# Altium schematic symbol library Schlib.SchLib: 32 symbols
Pins are listed as number, name and electrical type; pins without a type are passive.

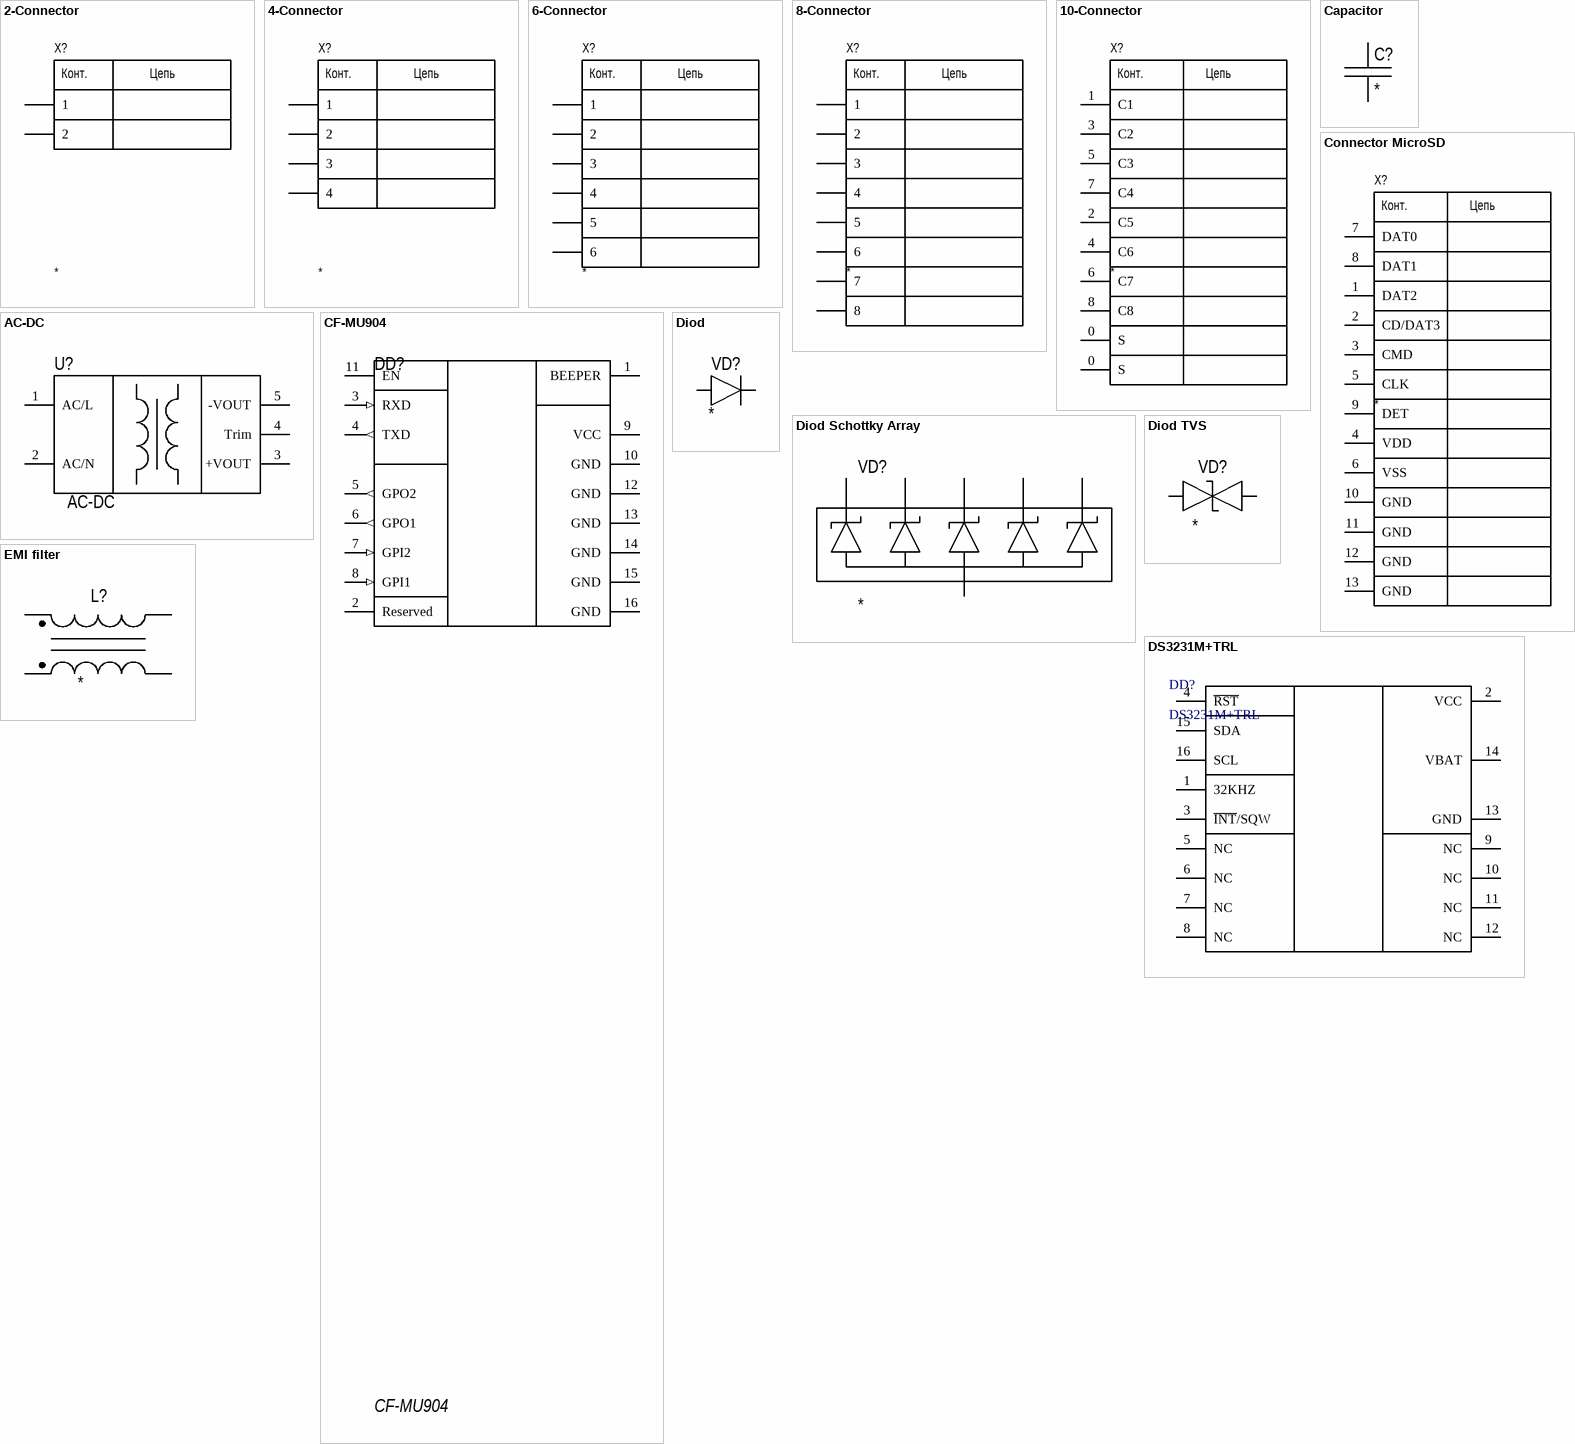
[diagram p0: symbols 2-Connector to EMI filter]

## 2-Connector
designator X?
Model: *; Manufacturer: *; HelpURL: *; ComponentKind: *
footprint CON: 300-02P-5.08 (2 pin 5.08mm screw connector)
pins: 1, 2
text: Конт.; Цепь

## 4-Connector
designator X?
Model: *; Manufacturer: *; HelpURL: *; ComponentKind: *
footprint CON: PLS-4 (PLS-40 4 pin header)
pins: 1, 2, 3 (power), 4 (power)
text: Конт.; Цепь

## 6-Connector
designator X?
Model: *; Manufacturer: *; HelpURL: *; ComponentKind: *
footprint CON: PLS-6
pins: 1, 2, 3 (power), 4 (power), 5 (power), 6 (power)
text: Конт.; Цепь

## 8-Connector
designator X?
Model: *; Manufacturer: *; HelpURL: *; ComponentKind: *
footprint CON: PLD-8 (PLD-40 8 pin header)
pins: 1, 2, 3, 4, 5, 6, 7, 8
text: Конт.; Цепь

## 10-Connector
designator X?
MicroSIM; Model: *; Manufacturer: *; HelpURL: *; ComponentKind: *
footprint CON: MicroSIM 8P SMD (8 Position Card Connector Micro SIM Surface Mount, Right Angle Gold)
pins: 0 S, 0 S, 1 C1, 2 C5, 3 C2, 4 C6, 5 C3, 6 C7, 7 C4, 8 C8
text: Конт.; Цепь

## AC-DC
designator U?
AC/DC CONVERTER; Manufacturer: MEAN WELL USA Inc.; Model: IRM-01-12; ComponentKind: 1W; HelpURL: https://www.digikey.com/en/products/detail/mean-well-usa-inc/IRM-01-12/7704612
footprint MOD: CBM70S (AC/DC CONVERTER)
pins: 1 AC/L (power), 2 AC/N (power), 3 +VOUT (power), 4 Trim (power), 5 -VOUT (power)

## Capacitor
designator C?
Manufacturer: *; Model: *; HelpURL: *; ComponentKind: *; Value: *
footprint CH0201C
footprint CH0402C
footprint CH0603C (Chip Capacitor, 2-Leads, Body 1,53x0,85mm, IPC Medium Density)
footprint CH0805C (Chip Capacitor, 2-Leads, Body 2,00x1,20mm, IPC Medium Density)
footprint CH1206C (Non polar chip capacitor, size 1206)
footprint CH1210C (Non polar chip capacitor, size 1210)
footprint CH1812C
pins: 1, 2

## CF-MU904
designator DD?
UHF RFID reader module; Manufacturer: Chafon Technology Co.; Model: CF-MU904; ComponentKind: SMD; HelpURL: http://www.chafon.com/productdetails.aspx?pid=565
footprint MOD: CF-MU904 (UHF RFID reader module)
pins: 1 BEEPER, 2 Reserved, 3 RXD (in), 4 TXD (out), 5 GPO2 (out), 6 GPO1 (out), 7 GPI2 (in), 8 GPI1 (in), 9 VCC (power), 10 GND (power), 11 EN, 12 GND (power), 13 GND (power), 14 GND (power), 15 GND (power), 16 GND (power)

## Connector MicroSD
designator X?
MicroSD; Model: *; Manufacturer: *; HelpURL: *; ComponentKind: *
footprint CON: microSD
pins: 1 DAT2, 2 CD/DAT3, 3 CMD, 4 VDD, 5 CLK, 6 VSS, 7 DAT0, 8 DAT1, 9 DET, 10 GND, 11 GND, 12 GND, 13 GND
text: Конт.; Цепь

## Diod
designator VD?
ComponentKind: *; Manufacturer: *; Model: *; HelpURL: *
footprint DO35
pins: 1, 2

## Diod Schottky Array
designator VD?
ComponentKind: *; Manufacturer: *; Model: *; HelpURL: *
footprint SOT-363 (Tvs Diode Surface Mount)
pins: 1, 2, 3, 4, 5, 6

## Diod TVS
designator VD?
ComponentKind: *; Manufacturer: *; Model: *; HelpURL: *
footprint CH0402L
pins: 1 A, 2 C

## DS3231M+TRL
designator DD?
RTC IC Clock/Calendar - I²C, 2-Wire Serial; Package: None; Price: None; Value: *; MP: DS3231M+TRL; Availability: Unavailable
footprint SOIC127P1032X265-16N
pins: 1 32KHZ, 2 VCC (power), 3 ~{INT}/SQW, 4 ~{RST}, 5 NC, 6 NC, 7 NC, 8 NC, 9 NC, 10 NC, 11 NC, 12 NC, 13 GND (power), 14 VBAT (power), 15 SDA, 16 SCL

## EMI filter
designator L?
Model: *; Manufacturer: *; HelpURL: *; ComponentKind: *
footprint IND: RN152 (2 Line Common Mode Choke Through Hole Filter)
pins: 1, 2, 3, 4

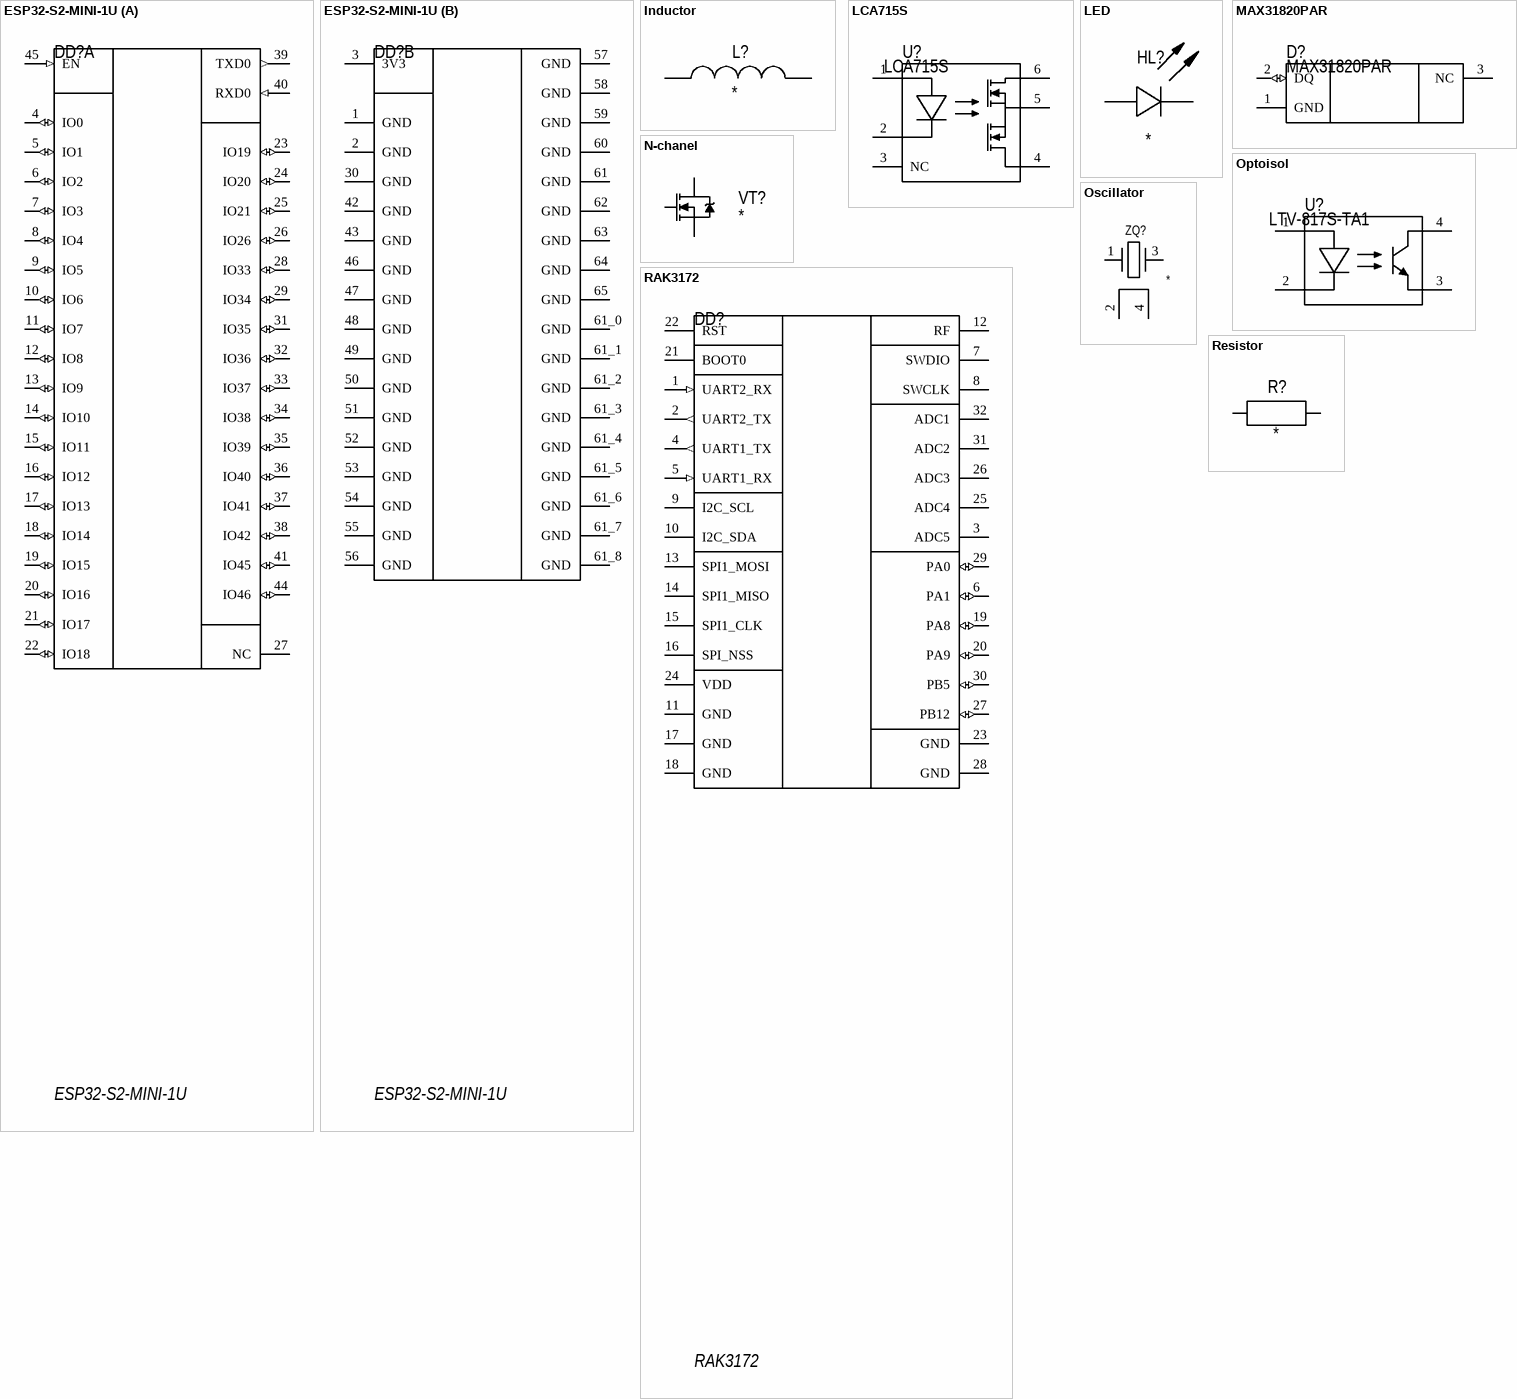
[diagram p1: symbols ESP32­S2­MINI­1U to Resistor]

## ESP32­S2­MINI­1U
designator DD?
WiFi Module; Manufacturer: Espressif Systems; Model: ESP32-S2-MINI-1U-N4R2; ComponentKind: SMD; HelpURL: https://www.digikey.com/en/products/detail/espressif-systems/ESP32-S2-MINI-1U-N4R2/15222567
footprint MOD: ESP32-S2-MINI-1U (SMD MODULE, ESP32-S2FN4R2 WITH 4)
part A pins: 4 IO0 (io), 5 IO1 (io), 6 IO2 (io), 7 IO3 (io), 8 IO4 (io), 9 IO5 (io), 10 IO6 (io), 11 IO7 (io), 12 IO8 (io), 13 IO9 (io), 14 IO10 (io), 15 IO11 (io), 16 IO12 (io), 17 IO13 (io), 18 IO14 (io), 19 IO15 (io), 20 IO16 (io), 21 IO17 (io), 22 IO18 (io), 23 IO19 (io), 24 IO20 (io), 25 IO21 (io), 26 IO26 (io), 27 NC, 28 IO33 (io), 29 IO34 (io), 31 IO35 (io), 32 IO36 (io), 33 IO37 (io), 34 IO38 (io), 35 IO39 (io), 36 IO40 (io), 37 IO41 (io), 38 IO42 (io), 39 TXD0 (out), 40 RXD0 (in), 41 IO45 (io), 44 IO46 (io), 45 EN (in)
part B pins: 1 GND (power), 2 GND (power), 3 3V3 (power), 30 GND (power), 42 GND (power), 43 GND (power), 46 GND (power), 47 GND (power), 48 GND (power), 49 GND (power), 50 GND (power), 51 GND (power), 52 GND (power), 53 GND (power), 54 GND (power), 55 GND (power), 56 GND (power), 57 GND (power), 58 GND (power), 59 GND (power), 60 GND (power), 61 GND (power), 61_0 GND (power), 61_1 GND (power), 61_2 GND (power), 61_3 GND (power), 61_4 GND (power), 61_5 GND (power), 61_6 GND (power), 61_7 GND (power), 61_8 GND (power), 62 GND (power), 63 GND (power), 64 GND (power), 65 GND (power)

## Inductor
designator L?
Manufacturer: *; Model: *; HelpURL: *; ComponentKind: *; Value: *
footprint CH0201L
footprint CH0402L
footprint CH0603L
footprint CH0805L
pins: 1, 2

## LCA715S
designator U?
Solid State Relay; Manufacturer: IXYS Integrated Circuits Division; Model: LCA715S; HelpURL: https://www.digikey.com/en/products/detail/ixys-integrated-circuits-division/LCA715S/1973063; ComponentKind: 6-SMD
footprint 6-SMD (SOIC, 4-Leads, Body 4,60x6,50mm, Pitch 1,27mm, IPC Medium Density)
pins: 1 A, 2 C, 3 NC, 4 L, 5 -L, 6 +L

## LED
designator HL?
Manufacturer: *; Model: *; HelpURL: *; ComponentKind: *; Value: *
footprint CH0603LB (Chip Capacitor, 2-Leads, Body 1,53x0,85mm, IPC Medium Density)
footprint CH0603LG (Chip Capacitor, 2-Leads, Body 1,53x0,85mm, IPC Medium Density)
footprint CH0603LR (Chip Capacitor, 2-Leads, Body 1,53x0,85mm, IPC Medium Density)
footprint CH0603LY (Chip Capacitor, 2-Leads, Body 1,53x0,85mm, IPC Medium Density)
footprint CH0805LB
footprint CH0805LG
footprint CH0603LR (Chip Capacitor, 2-Leads, Body 1,53x0,85mm, IPC Medium Density)
footprint CH0805LY
footprint CH1206LB (SMD Blue Led, size 1206)
footprint CH1206LG (SMD Green Led, size 1206)
footprint CH1206LR (SMD Red Led, size 1206)
footprint CH1206LW (SMD White Led, size 1206)
footprint CH1206LY (SMD Yellow Led, size 1206)
pins: 1 A, 2 C

## MAX31820PAR
designator D?
Temp sensor 1Wire; Manufacturer: Analog Devices; Model: AD22105ARZ; ComponentKind: 8-SOIC; HelpURL: https://www.digikey.com/product-detail/en/analog-devices-inc/AD22105ARZ/AD22105ARZ-ND/617049
footprint TO-92-3
pins: 1 GND (power), 2 DQ (io), 3 NC

## N-chanel
designator VT?
Mosfet; Model: *; Manufacturer: *; ComponentKind: *; HelpURL: *
footprint DPAK (D-Pak, Body 6,2x6,7mm)
pins: 1 G, 2 D, 3 S

## Optoisol
designator U?, comment LTV-817S-TA1
Manufacturer: Lite-On Inc.; Model: LTV-817S-TA1; HelpURL: https://www.digikey.com/en/products/detail/lite-on-inc/LTV-817S-TA1/388451; ComponentKind: 4-SMD
footprint 4-DIP
footprint 4-SMD (SOIC, 4-Leads, Body 4,60x6,50mm, Pitch 1,27mm, IPC Medium Density)
footprint 4-SO (VSSOP, 8-Leads, Body 3,10x3,10mm, Pitch 0,65mm)
pins: 1 A, 2 C, 3 E, 4 C

## Oscillator
designator ZQ?
Manufacturer: *; Model: *; HelpURL: *; ComponentKind: *; Value: *
footprint OSC: 2016
footprint OSC: 2520
footprint OSC: 3215
footprint OSC: 3225
footprint OSC: 5032
footprint OSC: 5032_6
footprint OSC: 5070
footprint OSC: ABM3 (Quartz)
footprint OSC: ABM7
footprint OSC: CVHD-950-122.880
footprint OSC: HC49S
footprint OSC: HC49SM
footprint OSC: KX-327L (Quartz Crystal KX – 327L)
footprint OSC: KX–9A (Quartz Crystal  KX–9A)
footprint OSC: S2V-T1S
pins: 1, 2, 3, 4

## RAK3172
designator DD?
LPWAN Module; Manufacturer: RAK; Model: RAK3172; ComponentKind: SMD; HelpURL: https://docs.rakwireless.com/Product-Categories/WisDuo/RAK3172-Module/Overview/#product-description
footprint MOD: RAK3172 (SMD RF MODULE)
pins: 1 UART2_RX (in), 2 UART2_TX (out), 3 ADC5, 4 UART1_TX (out), 5 UART1_RX (in), 6 PA1 (io), 7 SWDIO, 8 SWCLK, 9 I2C_SCL, 10 I2C_SDA, 11 GND (power), 12 RF, 13 SPI1_MOSI, 14 SPI1_MISO, 15 SPI1_CLK, 16 SPI_NSS, 17 GND (power), 18 GND (power), 19 PA8 (io), 20 PA9 (io), 21 BOOT0, 22 RST, 23 GND (power), 24 VDD (power), 25 ADC4, 26 ADC3, 27 PB12 (io), 28 GND (power), 29 PA0 (io), 30 PB5 (io), 31 ADC2, 32 ADC1

## Resistor
designator R?
Manufacturer: *; Model: *; HelpURL: *; ComponentKind: *; Value: *
footprint CH0201R
footprint CH0402R
footprint CH0603R
footprint CH0603R - without silc
footprint CH0805R
footprint CH1206R (Chip Resistor, 2-Leads, Body 3,0x1,5mm, IPC Low Density)
footprint CH2010R
footprint CH2512R
pins: 1, 2

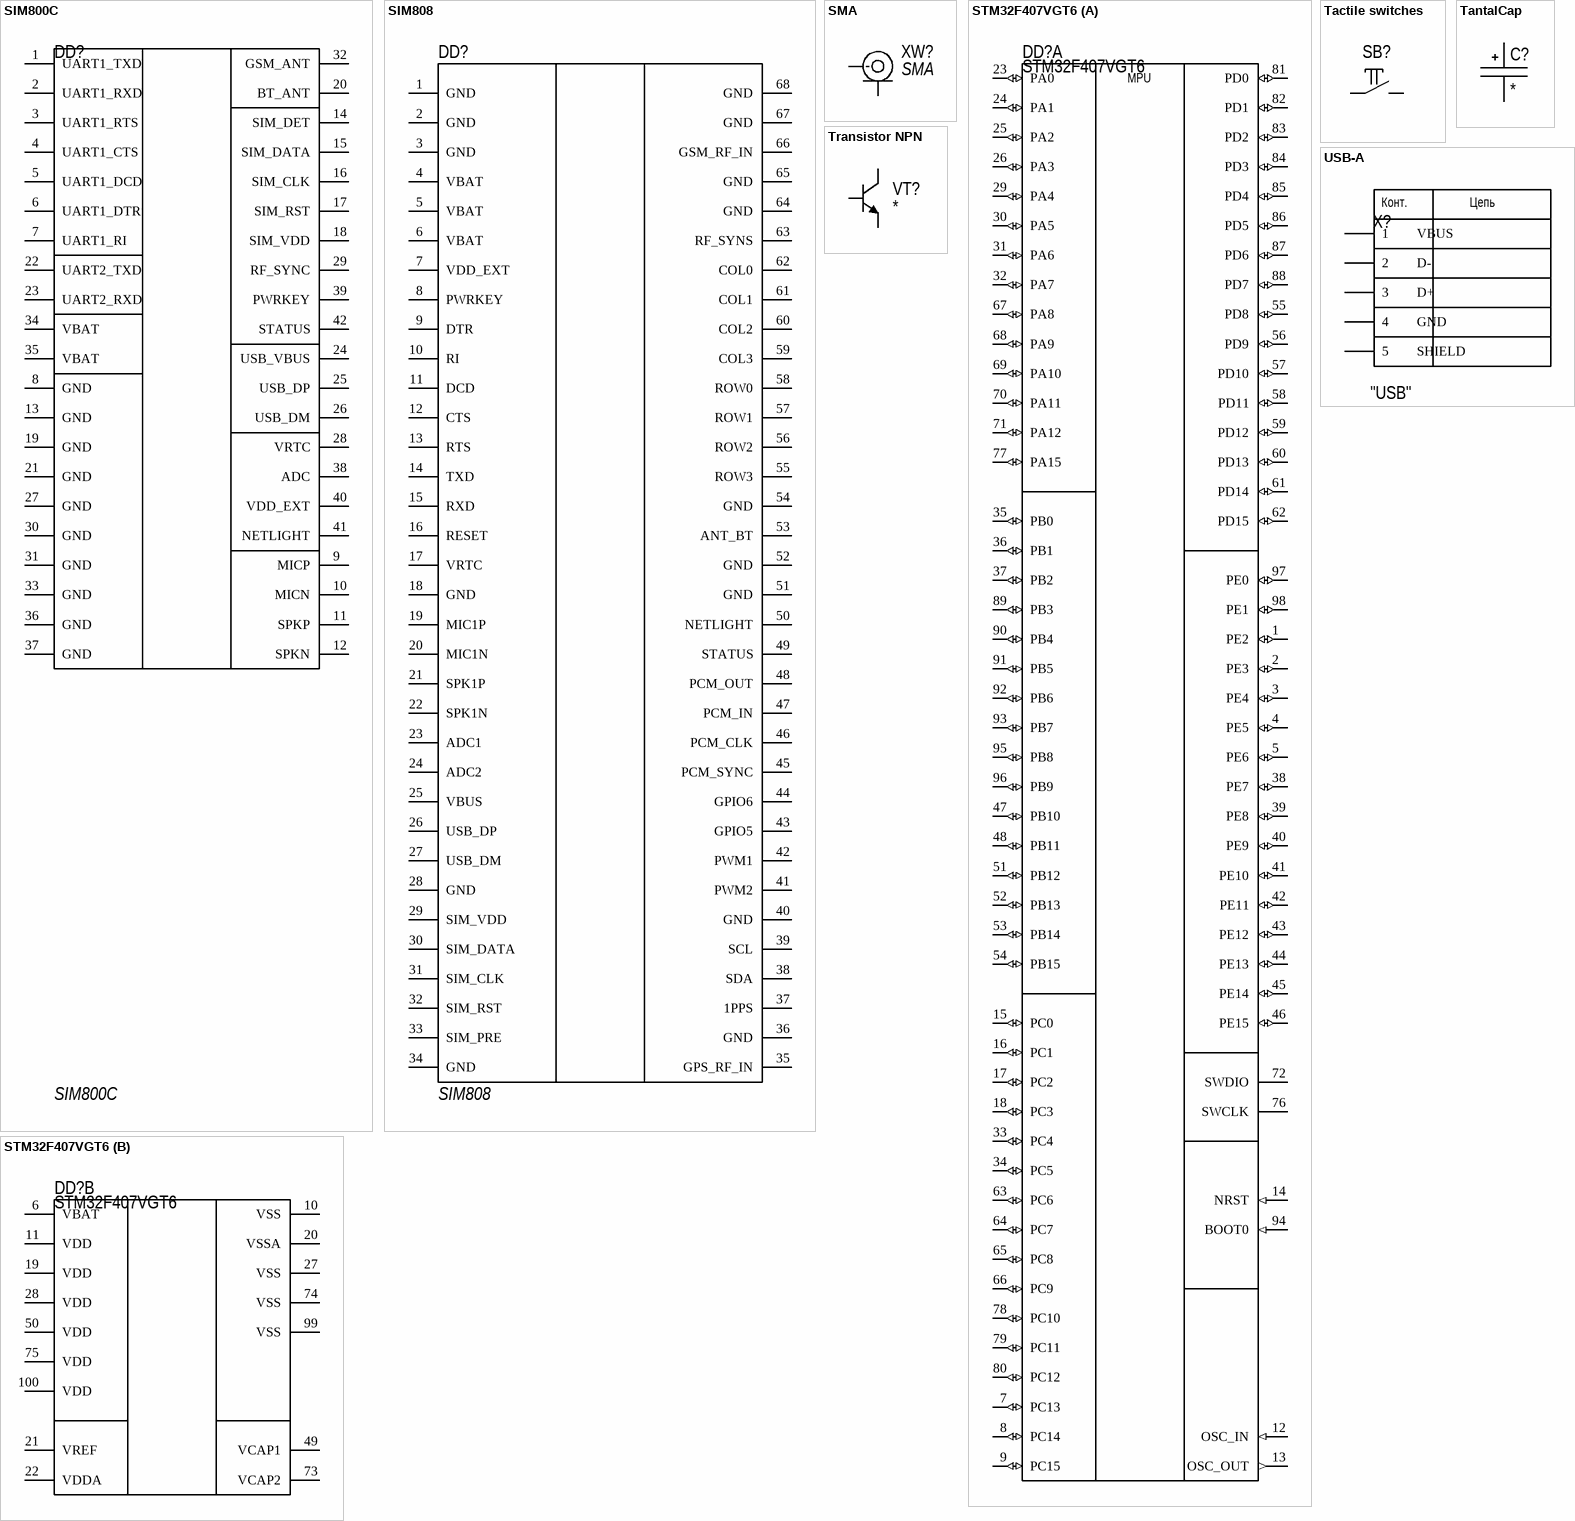
[diagram p2: symbols SIM800С to USB-A]

## SIM800С
designator DD?
GSM; Manufacturer: SIMCom Wireless Solutions; Model: SIM800C; ComponentKind: SMD; HelpURL: http://mt-system.ru/SIMCom/SIM800C
footprint MOD: SIM800C
pins: 1 UART1_TXD, 2 UART1_RXD, 3 UART1_RTS, 4 UART1_CTS, 5 UART1_DCD, 6 UART1_DTR, 7 UART1_RI, 8 GND, 9 MICP, 10 MICN, 11 SPKP, 12 SPKN, 13 GND, 14 SIM_DET, 15 SIM_DATA, 16 SIM_CLK, 17 SIM_RST, 18 SIM_VDD, 19 GND, 20 BT_ANT, 21 GND, 22 UART2_TXD, 23 UART2_RXD, 24 USB_VBUS, 25 USB_DP, 26 USB_DM, 27 GND, 28 VRTC, 29 RF_SYNC, 30 GND, 31 GND, 32 GSM_ANT, 33 GND, 34 VBAT, 35 VBAT, 36 GND, 37 GND, 38 ADC, 39 PWRKEY, 40 VDD_EXT, 41 NETLIGHT, 42 STATUS

## SIM808
designator DD?
GSM
footprint MOD: SIM808
pins: 1 GND, 2 GND, 3 GND, 4 VBAT, 5 VBAT, 6 VBAT, 7 VDD_EXT, 8 PWRKEY, 9 DTR, 10 RI, 11 DCD, 12 CTS, 13 RTS, 14 TXD, 15 RXD, 16 RESET, 17 VRTC, 18 GND, 19 MIC1P, 20 MIC1N, 21 SPK1P, 22 SPK1N, 23 ADC1, 24 ADC2, 25 VBUS, 26 USB_DP, 27 USB_DM, 28 GND, 29 SIM_VDD, 30 SIM_DATA, 31 SIM_CLK, 32 SIM_RST, 33 SIM_PRE, 34 GND, 35 GPS_RF_IN, 36 GND, 37 1PPS, 38 SDA, 39 SCL, 40 GND, 41 PWM2, 42 PWM1, 43 GPIO5, 44 GPIO6, 45 PCM_SYNC, 46 PCM_CLK, 47 PCM_IN, 48 PCM_OUT, 49 STATUS, 50 NETLIGHT, 51 GND, 52 GND, 53 ANT_BT, 54 GND, 55 ROW3, 56 ROW2, 57 ROW1, 58 ROW0, 59 COL3, 60 COL2, 61 COL1, 62 COL0, 63 RF_SYNS, 64 GND, 65 GND, 66 GSM_RF_IN, 67 GND, 68 GND

## SMA
designator XW?
RF; Model: *; Manufacturer: *; HelpURL: *; ComponentKind: *
footprint CON: SMA
pins: 1 IN, 2 IN

## STM32F407VGT6
designator DD?
Cortex-M4; Manufacturer: STMicroelectronics; Model: STM32F407VGT6; ComponentKind: 100-LQFP
footprint 100-LQFP (Thin QFP, 100-Leads, Body 14x14mm, Pitch 0.5mm, IPC Medium Density)
part A pins: 1 PE2 (io), 2 PE3 (io), 3 PE4 (io), 4 PE5 (io), 5 PE6 (io), 7 PC13 (io), 8 PC14 (io), 9 PC15 (io), 12 OSC_IN (in), 13 OSC_OUT (out), 14 NRST (in), 15 PC0 (io), 16 PC1 (io), 17 PC2 (io), 18 PC3 (io), 23 PA0 (io), 24 PA1 (io), 25 PA2 (io), 26 PA3 (io), 29 PA4 (io), 30 PA5 (io), 31 PA6 (io), 32 PA7 (io), 33 PC4 (io), 34 PC5 (io), 35 PB0 (io), 36 PB1 (io), 37 PB2 (io), 38 PE7 (io), 39 PE8 (io), 40 PE9 (io), 41 PE10 (io), 42 PE11 (io), 43 PE12 (io), 44 PE13 (io), 45 PE14 (io), 46 PE15 (io), 47 PB10 (io), 48 PB11 (io), 51 PB12 (io), 52 PB13 (io), 53 PB14 (io), 54 PB15 (io), 55 PD8 (io), 56 PD9 (io), 57 PD10 (io), 58 PD11 (io), 59 PD12 (io), 60 PD13 (io), 61 PD14 (io), 62 PD15 (io), 63 PC6 (io), 64 PC7 (io), 65 PC8 (io), 66 PC9 (io), 67 PA8 (io), 68 PA9 (io), 69 PA10 (io), 70 PA11 (io), 71 PA12 (io), 72 SWDIO, 76 SWCLK, 77 PA15 (io), 78 PC10 (io), 79 PC11 (io), 80 PC12 (io), 81 PD0 (io), 82 PD1 (io), 83 PD2 (io), 84 PD3 (io), 85 PD4 (io), 86 PD5 (io), 87 PD6 (io), 88 PD7 (io), 89 PB3 (io), 90 PB4 (io), 91 PB5 (io), 92 PB6 (io), 93 PB7 (io), 94 BOOT0 (in), 95 PB8 (io), 96 PB9 (io), 97 PE0 (io), 98 PE1 (io)
part B pins: 6 VBAT (power), 10 VSS (power), 11 VDD (power), 19 VDD (power), 20 VSSA (power), 21 VREF (power), 22 VDDA (power), 27 VSS (power), 28 VDD (power), 49 VCAP1 (power), 50 VDD (power), 73 VCAP2 (power), 74 VSS (power), 75 VDD (power), 99 VSS (power), 100 VDD (power)
part A text: MPU

## Tactile switches
designator SB?
6x6 mm; Manufacturer: *; Model: *; HelpURL: *; ComponentKind: *
footprint BUT: 6x6 (Leaded Tactile Button 6x6)
footprint BUT: 6x6 mm (R)
footprint BUT: 6x6 SMD (Leaded Tactile Button 6x6)
footprint BUT: PB22E07 (DPDT, 7x7)
footprint BUT: PB22E09 (DPDT, 8.5x8.5x14)
footprint BUT: SKQGADE010
pins: 1, 2

## TantalCap
designator C?
Manufacturer: *; Model: *; HelpURL: *; ComponentKind: *; Value: *
footprint TANTAL_A
footprint TANTAL_B
footprint TANTAL_C
footprint TANTAL_D
footprint TANTAL_E
pins: 1, 2

## Transistor NPN
designator VT?
Bipolar; Model: *; Manufacturer: *; ComponentKind: *; HelpURL: *
footprint 8-HSOF
footprint SOT23_123 (SOT23, 3-Leads, Body 3,0x2,6mm (max), Pitch 0,95mm, IPC Medium Density)
footprint SOT23_132 (SOT23, 3-Leads, Body 3,0x2,6mm (max), Pitch 0,95mm, IPC Medium Density)
footprint SOT23_231 (SOT23, 3-Leads, Body 3,0x2,6mm (max), Pitch 0,95mm, IPC Medium Density)
footprint SOT23_321 (SOT23, 3-Leads, Body 3,0x2,6mm (max), Pitch 0,95mm, IPC Medium Density)
footprint SOT89_123 (SOT89, 3-Leads, Body 4,50x2,45mm, Pitch 1,50mm, Lead Span 4,1mm, IPC Medium Density)
footprint SOT89_132 (SOT89, 3-Leads, Body 4,50x2,45mm, Pitch 1,50mm, Lead Span 4,1mm, IPC Medium Density)
footprint SOT223 (SOT223, 4-Leads, Body 6,50x7,00mm (avg), Pitch 2,30mm, IPC Medium Density)
footprint SOT223_1324 (SOT223, 4-Leads, Body 6,50x7,00mm (avg), Pitch 2,30mm, IPC Medium Density)
footprint TO220_123 (Generic TO-220 case, stay variant)
footprint TO220_132 (Generic TO-220 case, stay variant)
footprint TO220_321 (Generic TO-220 case, stay variant)
footprint TO247_123 (3-Lead Plastic TO-247)
footprint TO247_132 (3-Lead Plastic TO-247)
pins: 1 B, 2 C, 3 E

## USB-A
designator X?, comment "USB"
USB; Manufacturer: TE Connectivity; Model: 292303-2; HelpURL: https://www.digikey.com/product-detail/en/te-connectivity-amp-connectors/292303-2/A105221-ND/953990; ComponentKind: type A
footprint CON: USB-A
pins: 1 1        VBUS, 2 2        D-, 3 3        D+ (power), 4 4        GND (power), 5 5        SHIELD (power)
text: Конт.; Цепь